# Altium schematic symbol library kmilo17pet-LT_PMIC_LT.SchLib: 2252 symbols (part 101 of 124)
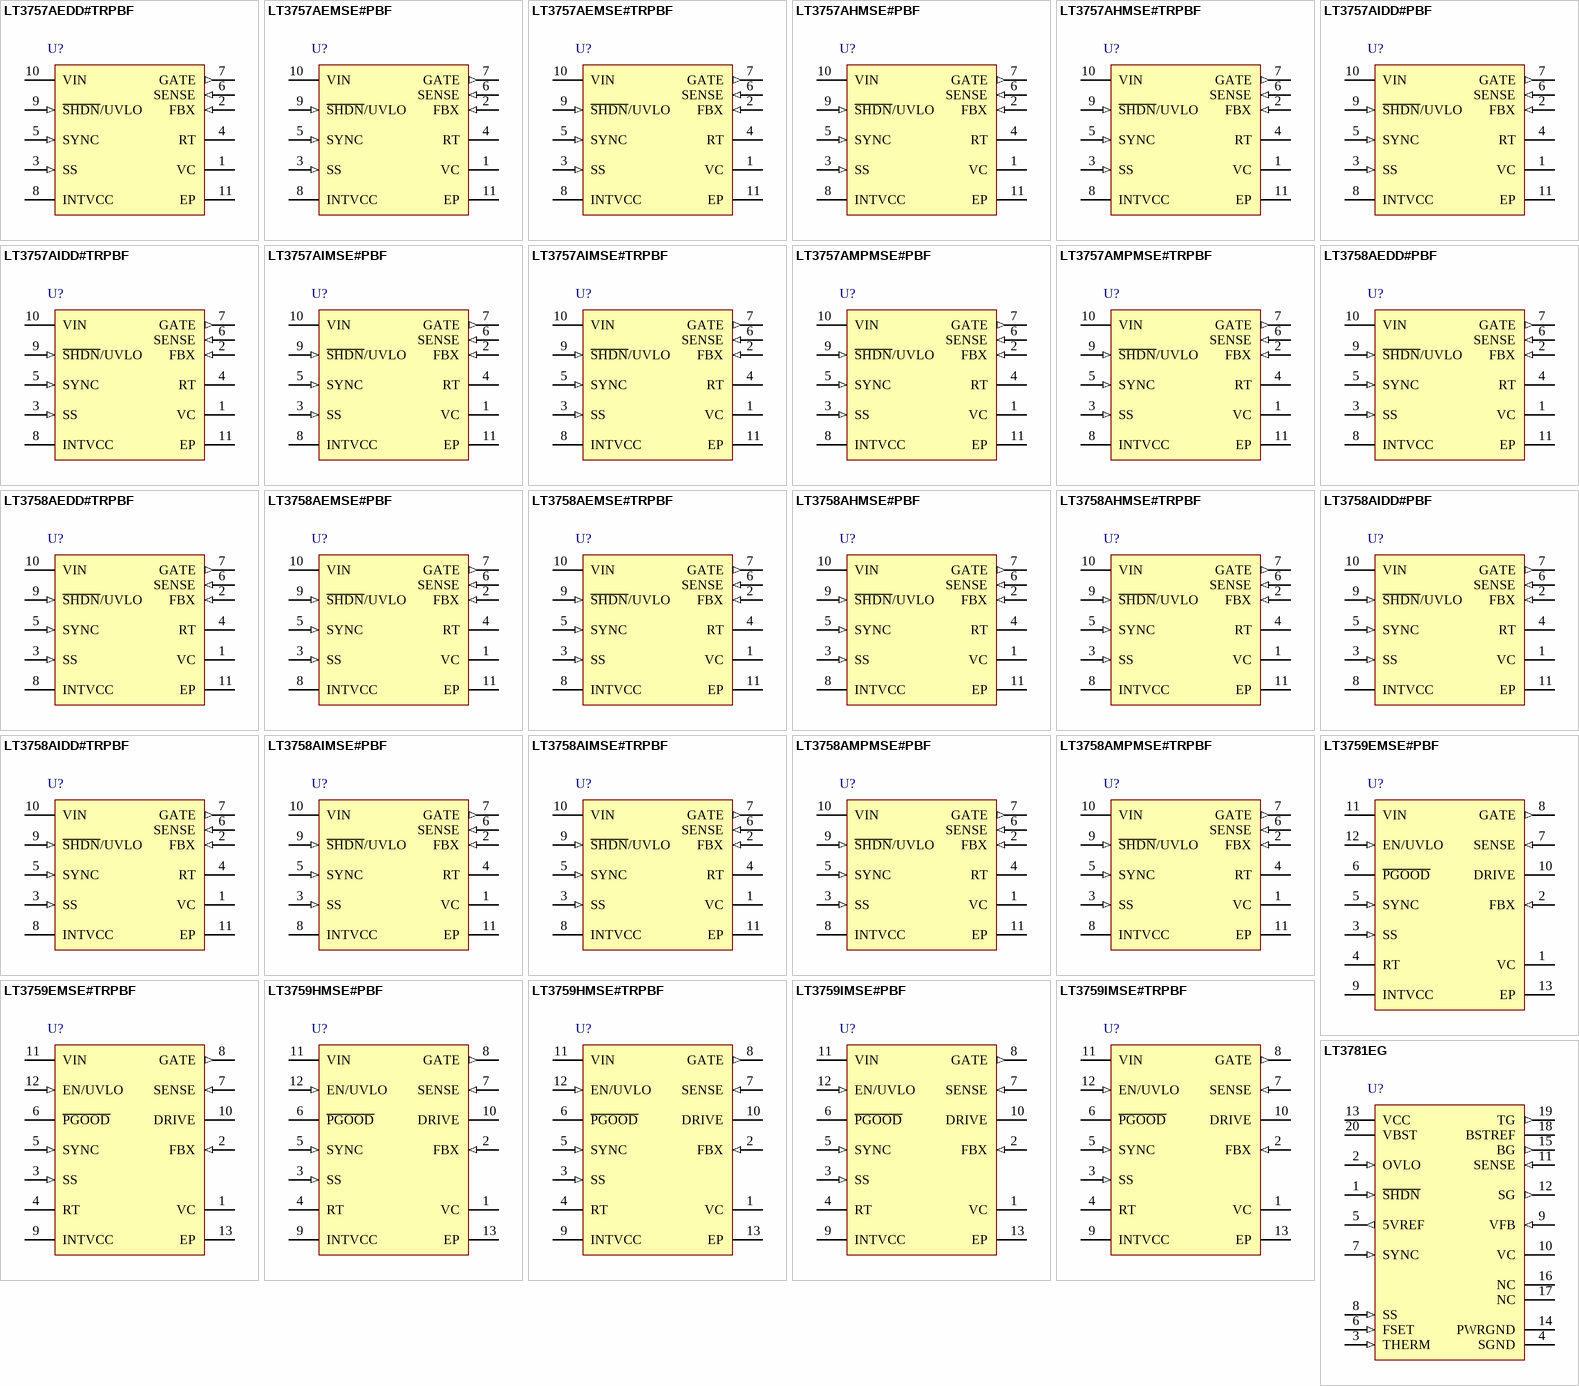
[diagram p171: symbols LT3757AEDD#TRPBF to LT3781EG]

## LT3758AEDD#PBF
designator U?
High Input Voltage, Boost, Flyback, SEPIC and Inverting Controller-Improved Load Transient, 10-pin SON (DD-10), -40 to 125 degC, Pb-Free; Manufacturer: Linear Technology; PartNumber: LT3758AEDD#PBF; Number of Outputs: 1; PackageReference: DD-10; PackageDescription: 10-Pin Plastic DFN, Body 3 x 3 mm, Pitch 0.5 mm; Supplier 1: Digi-Key; Supplier Part Number 1: LT3758AEDD#PBF-ND; RoHS: TRUE
footprint LT-DD-10_V (SON, 10-Leads, Body 3x3mm, Pitch 0.5mm, Thermal Pad 2.38x1.65mm)
pins: 1 VC "Error Amplifier Compensation Pin. Used to stabilize the voltage loop with an external RC network.", 2 FBX (in) "Positive and Negative Feedback Pin. Receives the feedback voltage from the external resistor divider across the output. Also modulates the frequency during start-up and fault conditions when FBX is close to GND.", 3 SS (in) "Soft-Start Pin. This pin modulates compensation pin voltage (VC) clamp. The soft-start interval is set with an external capacitor. The pin has a 10uA (typical) pull-up current source to an internal 2.5V rail. The soft-start (See Datasheet)", 4 RT "Switching Frequency Adjustment Pin. Set the frequency using a resistor to GND. Do not leave this pin open.", 5 SYNC (in) "Frequency Synchronization Pin. Used to synchronize the switching frequency to an outside clock. If this feature is used, an RT resistor should be chosen to program a switching frequency 20% slower than the SYNC pulse (See Datasheet)", 6 SENSE (in) "The Current Sense Input for the Control Loop. Kelvin connect this pin to the positive terminal of the switch current sense resistor in the source of the NFET. The negative terminal of the current sense resistor should be (See Datasheet)", 7 GATE (out) "N-Channel MOSFET Gate Driver Output. Switches between INTVCC and GND. Driven to GND when IC is shut down, during thermal lockout or when INTVCC is above or below the OV or UV thresholds, respectively.", 8 INTVCC (power) "Regulated Supply for Internal Loads and Gate Driver. Supplied from VIN and regulated to 7.2V (typical). INTVCC must be bypassed with a minimum of 4.7uF capacitor placed close to pin. INTVCC can be connected directly to VIN, (See Datasheet)", 9 ~{SHDN}/UVLO (in) "Shutdown and Undervoltage Detect Pin. An accurate 1.22V (nominal) falling threshold with externally programmable hysteresis detects when power is okay to enable switching. Rising hysteresis is generated by the external (See Datasheet)", 10 VIN (power) "Input Supply Pin. Must be locally bypassed with a 0.22uF, or larger, capacitor placed close to the pin.", 11 EP (power) "Ground. This pin also serves as the negative terminal of the current sense resistor. The Exposed Pad must be soldered directly to the local ground plane."

## LT3758AEDD#TRPBF
designator U?
High Input Voltage, Boost, Flyback, SEPIC and Inverting Controller-Improved Load Transient, 10-pin SON (DD-10), -40 to 125 degC, Pb-Free, Tape and Reel; Manufacturer: Linear Technology; PartNumber: LT3758AEDD#TRPBF; Number of Outputs: 1; PackageReference: DD-10; PackageDescription: 10-Pin Plastic DFN, Body 3 x 3 mm, Pitch 0.5 mm; Supplier 1: Digi-Key; Supplier Part Number 1: LT3758AEDD#TRPBF-ND; RoHS: TRUE
footprint LT-DD-10_V (SON, 10-Leads, Body 3x3mm, Pitch 0.5mm, Thermal Pad 2.38x1.65mm)
pins: 1 VC "Error Amplifier Compensation Pin. Used to stabilize the voltage loop with an external RC network.", 2 FBX (in) "Positive and Negative Feedback Pin. Receives the feedback voltage from the external resistor divider across the output. Also modulates the frequency during start-up and fault conditions when FBX is close to GND.", 3 SS (in) "Soft-Start Pin. This pin modulates compensation pin voltage (VC) clamp. The soft-start interval is set with an external capacitor. The pin has a 10uA (typical) pull-up current source to an internal 2.5V rail. The soft-start (See Datasheet)", 4 RT "Switching Frequency Adjustment Pin. Set the frequency using a resistor to GND. Do not leave this pin open.", 5 SYNC (in) "Frequency Synchronization Pin. Used to synchronize the switching frequency to an outside clock. If this feature is used, an RT resistor should be chosen to program a switching frequency 20% slower than the SYNC pulse (See Datasheet)", 6 SENSE (in) "The Current Sense Input for the Control Loop. Kelvin connect this pin to the positive terminal of the switch current sense resistor in the source of the NFET. The negative terminal of the current sense resistor should be (See Datasheet)", 7 GATE (out) "N-Channel MOSFET Gate Driver Output. Switches between INTVCC and GND. Driven to GND when IC is shut down, during thermal lockout or when INTVCC is above or below the OV or UV thresholds, respectively.", 8 INTVCC (power) "Regulated Supply for Internal Loads and Gate Driver. Supplied from VIN and regulated to 7.2V (typical). INTVCC must be bypassed with a minimum of 4.7uF capacitor placed close to pin. INTVCC can be connected directly to VIN, (See Datasheet)", 9 ~{SHDN}/UVLO (in) "Shutdown and Undervoltage Detect Pin. An accurate 1.22V (nominal) falling threshold with externally programmable hysteresis detects when power is okay to enable switching. Rising hysteresis is generated by the external (See Datasheet)", 10 VIN (power) "Input Supply Pin. Must be locally bypassed with a 0.22uF, or larger, capacitor placed close to the pin.", 11 EP (power) "Ground. This pin also serves as the negative terminal of the current sense resistor. The Exposed Pad must be soldered directly to the local ground plane."

## LT3758AEMSE#PBF
designator U?
High Input Voltage, Boost, Flyback, SEPIC and Inverting Controller-Improved Load Transient, 10-pin SOP (MSE-10-EDP), -40 to 125 degC, Pb-Free; Manufacturer: Linear Technology; PartNumber: LT3758AEMSE#PBF; Number of Outputs: 1; PackageReference: MSE-10; PackageDescription: 10-Pin Plastic MSOP, Exposed Die Pad, Body 3 x 3 mm, Pitch 0.5 mm; Supplier 1: Digi-Key; Supplier Part Number 1: LT3758AEMSE#PBF-ND; RoHS: TRUE
footprint LT-MSE-10-EDP_N (SOP, 10-Leads, Body 3.1x3.1mm, Pitch 0.5mm, Thermal Pad 1.88x1.68mm, IPC Medium Density)
footprint LT-MSE-10-EDP_L (SOP, 10-Leads, Body 3.1x3.1mm, Pitch 0.5mm, Thermal Pad 1.88x1.68mm, IPC High Density)
footprint LT-MSE-10-EDP_M (SOP, 10-Leads, Body 3.1x3.1mm, Pitch 0.5mm, Thermal Pad 1.88x1.68mm, IPC Low Density)
pins: 1 VC "Error Amplifier Compensation Pin. Used to stabilize the voltage loop with an external RC network.", 2 FBX (in) "Positive and Negative Feedback Pin. Receives the feedback voltage from the external resistor divider across the output. Also modulates the frequency during start-up and fault conditions when FBX is close to GND.", 3 SS (in) "Soft-Start Pin. This pin modulates compensation pin voltage (VC) clamp. The soft-start interval is set with an external capacitor. The pin has a 10uA (typical) pull-up current source to an internal 2.5V rail. The soft-start (See Datasheet)", 4 RT "Switching Frequency Adjustment Pin. Set the frequency using a resistor to GND. Do not leave this pin open.", 5 SYNC (in) "Frequency Synchronization Pin. Used to synchronize the switching frequency to an outside clock. If this feature is used, an RT resistor should be chosen to program a switching frequency 20% slower than the SYNC pulse (See Datasheet)", 6 SENSE (in) "The Current Sense Input for the Control Loop. Kelvin connect this pin to the positive terminal of the switch current sense resistor in the source of the NFET. The negative terminal of the current sense resistor should be (See Datasheet)", 7 GATE (out) "N-Channel MOSFET Gate Driver Output. Switches between INTVCC and GND. Driven to GND when IC is shut down, during thermal lockout or when INTVCC is above or below the OV or UV thresholds, respectively.", 8 INTVCC (power) "Regulated Supply for Internal Loads and Gate Driver. Supplied from VIN and regulated to 7.2V (typical). INTVCC must be bypassed with a minimum of 4.7uF capacitor placed close to pin. INTVCC can be connected directly to VIN, (See Datasheet)", 9 ~{SHDN}/UVLO (in) "Shutdown and Undervoltage Detect Pin. An accurate 1.22V (nominal) falling threshold with externally programmable hysteresis detects when power is okay to enable switching. Rising hysteresis is generated by the external (See Datasheet)", 10 VIN (power) "Input Supply Pin. Must be locally bypassed with a 0.22uF, or larger, capacitor placed close to the pin.", 11 EP (power) "Ground. This pin also serves as the negative terminal of the current sense resistor. The Exposed Pad must be soldered directly to the local ground plane."

## LT3758AEMSE#TRPBF
designator U?
High Input Voltage, Boost, Flyback, SEPIC and Inverting Controller-Improved Load Transient, 10-pin SOP (MSE-10-EDP), -40 to 125 degC, Pb-Free, Tape and Reel; Manufacturer: Linear Technology; PartNumber: LT3758AEMSE#TRPBF; Number of Outputs: 1; PackageReference: MSE-10; PackageDescription: 10-Pin Plastic MSOP, Exposed Die Pad, Body 3 x 3 mm, Pitch 0.5 mm; Supplier 1: Digi-Key; Supplier Part Number 1: LT3758AEMSE#TRPBF-ND; RoHS: TRUE
footprint LT-MSE-10-EDP_N (SOP, 10-Leads, Body 3.1x3.1mm, Pitch 0.5mm, Thermal Pad 1.88x1.68mm, IPC Medium Density)
footprint LT-MSE-10-EDP_L (SOP, 10-Leads, Body 3.1x3.1mm, Pitch 0.5mm, Thermal Pad 1.88x1.68mm, IPC High Density)
footprint LT-MSE-10-EDP_M (SOP, 10-Leads, Body 3.1x3.1mm, Pitch 0.5mm, Thermal Pad 1.88x1.68mm, IPC Low Density)
pins: 1 VC "Error Amplifier Compensation Pin. Used to stabilize the voltage loop with an external RC network.", 2 FBX (in) "Positive and Negative Feedback Pin. Receives the feedback voltage from the external resistor divider across the output. Also modulates the frequency during start-up and fault conditions when FBX is close to GND.", 3 SS (in) "Soft-Start Pin. This pin modulates compensation pin voltage (VC) clamp. The soft-start interval is set with an external capacitor. The pin has a 10uA (typical) pull-up current source to an internal 2.5V rail. The soft-start (See Datasheet)", 4 RT "Switching Frequency Adjustment Pin. Set the frequency using a resistor to GND. Do not leave this pin open.", 5 SYNC (in) "Frequency Synchronization Pin. Used to synchronize the switching frequency to an outside clock. If this feature is used, an RT resistor should be chosen to program a switching frequency 20% slower than the SYNC pulse (See Datasheet)", 6 SENSE (in) "The Current Sense Input for the Control Loop. Kelvin connect this pin to the positive terminal of the switch current sense resistor in the source of the NFET. The negative terminal of the current sense resistor should be (See Datasheet)", 7 GATE (out) "N-Channel MOSFET Gate Driver Output. Switches between INTVCC and GND. Driven to GND when IC is shut down, during thermal lockout or when INTVCC is above or below the OV or UV thresholds, respectively.", 8 INTVCC (power) "Regulated Supply for Internal Loads and Gate Driver. Supplied from VIN and regulated to 7.2V (typical). INTVCC must be bypassed with a minimum of 4.7uF capacitor placed close to pin. INTVCC can be connected directly to VIN, (See Datasheet)", 9 ~{SHDN}/UVLO (in) "Shutdown and Undervoltage Detect Pin. An accurate 1.22V (nominal) falling threshold with externally programmable hysteresis detects when power is okay to enable switching. Rising hysteresis is generated by the external (See Datasheet)", 10 VIN (power) "Input Supply Pin. Must be locally bypassed with a 0.22uF, or larger, capacitor placed close to the pin.", 11 EP (power) "Ground. This pin also serves as the negative terminal of the current sense resistor. The Exposed Pad must be soldered directly to the local ground plane."

## LT3758AHMSE#PBF
designator U?
High Input Voltage, Boost, Flyback, SEPIC and Inverting Controller-Improved Load Transient, 10-pin SOP (MSE-10-EDP), -40 to 150 degC, Pb-Free; Manufacturer: Linear Technology; PartNumber: LT3758AHMSE#PBF; Number of Outputs: 1; PackageReference: MSE-10; PackageDescription: 10-Pin Plastic MSOP, Exposed Die Pad, Body 3 x 3 mm, Pitch 0.5 mm; Supplier 1: Digi-Key; Supplier Part Number 1: LT3758AHMSE#PBF-ND; RoHS: TRUE
footprint LT-MSE-10-EDP_N (SOP, 10-Leads, Body 3.1x3.1mm, Pitch 0.5mm, Thermal Pad 1.88x1.68mm, IPC Medium Density)
footprint LT-MSE-10-EDP_L (SOP, 10-Leads, Body 3.1x3.1mm, Pitch 0.5mm, Thermal Pad 1.88x1.68mm, IPC High Density)
footprint LT-MSE-10-EDP_M (SOP, 10-Leads, Body 3.1x3.1mm, Pitch 0.5mm, Thermal Pad 1.88x1.68mm, IPC Low Density)
pins: 1 VC "Error Amplifier Compensation Pin. Used to stabilize the voltage loop with an external RC network.", 2 FBX (in) "Positive and Negative Feedback Pin. Receives the feedback voltage from the external resistor divider across the output. Also modulates the frequency during start-up and fault conditions when FBX is close to GND.", 3 SS (in) "Soft-Start Pin. This pin modulates compensation pin voltage (VC) clamp. The soft-start interval is set with an external capacitor. The pin has a 10uA (typical) pull-up current source to an internal 2.5V rail. The soft-start (See Datasheet)", 4 RT "Switching Frequency Adjustment Pin. Set the frequency using a resistor to GND. Do not leave this pin open.", 5 SYNC (in) "Frequency Synchronization Pin. Used to synchronize the switching frequency to an outside clock. If this feature is used, an RT resistor should be chosen to program a switching frequency 20% slower than the SYNC pulse (See Datasheet)", 6 SENSE (in) "The Current Sense Input for the Control Loop. Kelvin connect this pin to the positive terminal of the switch current sense resistor in the source of the NFET. The negative terminal of the current sense resistor should be (See Datasheet)", 7 GATE (out) "N-Channel MOSFET Gate Driver Output. Switches between INTVCC and GND. Driven to GND when IC is shut down, during thermal lockout or when INTVCC is above or below the OV or UV thresholds, respectively.", 8 INTVCC (power) "Regulated Supply for Internal Loads and Gate Driver. Supplied from VIN and regulated to 7.2V (typical). INTVCC must be bypassed with a minimum of 4.7uF capacitor placed close to pin. INTVCC can be connected directly to VIN, (See Datasheet)", 9 ~{SHDN}/UVLO (in) "Shutdown and Undervoltage Detect Pin. An accurate 1.22V (nominal) falling threshold with externally programmable hysteresis detects when power is okay to enable switching. Rising hysteresis is generated by the external (See Datasheet)", 10 VIN (power) "Input Supply Pin. Must be locally bypassed with a 0.22uF, or larger, capacitor placed close to the pin.", 11 EP (power) "Ground. This pin also serves as the negative terminal of the current sense resistor. The Exposed Pad must be soldered directly to the local ground plane."

## LT3758AHMSE#TRPBF
designator U?
High Input Voltage, Boost, Flyback, SEPIC and Inverting Controller-Improved Load Transient, 10-pin SOP (MSE-10-EDP), -40 to 150 degC, Pb-Free, Tape and Reel; Manufacturer: Linear Technology; PartNumber: LT3758AHMSE#TRPBF; Number of Outputs: 1; PackageReference: MSE-10; PackageDescription: 10-Pin Plastic MSOP, Exposed Die Pad, Body 3 x 3 mm, Pitch 0.5 mm; Supplier 1: Digi-Key; Supplier Part Number 1: LT3758AHMSE#TRPBF-ND; RoHS: TRUE
footprint LT-MSE-10-EDP_N (SOP, 10-Leads, Body 3.1x3.1mm, Pitch 0.5mm, Thermal Pad 1.88x1.68mm, IPC Medium Density)
footprint LT-MSE-10-EDP_L (SOP, 10-Leads, Body 3.1x3.1mm, Pitch 0.5mm, Thermal Pad 1.88x1.68mm, IPC High Density)
footprint LT-MSE-10-EDP_M (SOP, 10-Leads, Body 3.1x3.1mm, Pitch 0.5mm, Thermal Pad 1.88x1.68mm, IPC Low Density)
pins: 1 VC "Error Amplifier Compensation Pin. Used to stabilize the voltage loop with an external RC network.", 2 FBX (in) "Positive and Negative Feedback Pin. Receives the feedback voltage from the external resistor divider across the output. Also modulates the frequency during start-up and fault conditions when FBX is close to GND.", 3 SS (in) "Soft-Start Pin. This pin modulates compensation pin voltage (VC) clamp. The soft-start interval is set with an external capacitor. The pin has a 10uA (typical) pull-up current source to an internal 2.5V rail. The soft-start (See Datasheet)", 4 RT "Switching Frequency Adjustment Pin. Set the frequency using a resistor to GND. Do not leave this pin open.", 5 SYNC (in) "Frequency Synchronization Pin. Used to synchronize the switching frequency to an outside clock. If this feature is used, an RT resistor should be chosen to program a switching frequency 20% slower than the SYNC pulse (See Datasheet)", 6 SENSE (in) "The Current Sense Input for the Control Loop. Kelvin connect this pin to the positive terminal of the switch current sense resistor in the source of the NFET. The negative terminal of the current sense resistor should be (See Datasheet)", 7 GATE (out) "N-Channel MOSFET Gate Driver Output. Switches between INTVCC and GND. Driven to GND when IC is shut down, during thermal lockout or when INTVCC is above or below the OV or UV thresholds, respectively.", 8 INTVCC (power) "Regulated Supply for Internal Loads and Gate Driver. Supplied from VIN and regulated to 7.2V (typical). INTVCC must be bypassed with a minimum of 4.7uF capacitor placed close to pin. INTVCC can be connected directly to VIN, (See Datasheet)", 9 ~{SHDN}/UVLO (in) "Shutdown and Undervoltage Detect Pin. An accurate 1.22V (nominal) falling threshold with externally programmable hysteresis detects when power is okay to enable switching. Rising hysteresis is generated by the external (See Datasheet)", 10 VIN (power) "Input Supply Pin. Must be locally bypassed with a 0.22uF, or larger, capacitor placed close to the pin.", 11 EP (power) "Ground. This pin also serves as the negative terminal of the current sense resistor. The Exposed Pad must be soldered directly to the local ground plane."

## LT3758AIDD#PBF
designator U?
High Input Voltage, Boost, Flyback, SEPIC and Inverting Controller-Improved Load Transient, 10-pin SON (DD-10), -40 to 125 degC, Pb-Free; Manufacturer: Linear Technology; PartNumber: LT3758AIDD#PBF; Number of Outputs: 1; PackageReference: DD-10; PackageDescription: 10-Pin Plastic DFN, Body 3 x 3 mm, Pitch 0.5 mm; Supplier 1: Digi-Key; Supplier Part Number 1: LT3758AIDD#PBF-ND; RoHS: TRUE
footprint LT-DD-10_V (SON, 10-Leads, Body 3x3mm, Pitch 0.5mm, Thermal Pad 2.38x1.65mm)
pins: 1 VC "Error Amplifier Compensation Pin. Used to stabilize the voltage loop with an external RC network.", 2 FBX (in) "Positive and Negative Feedback Pin. Receives the feedback voltage from the external resistor divider across the output. Also modulates the frequency during start-up and fault conditions when FBX is close to GND.", 3 SS (in) "Soft-Start Pin. This pin modulates compensation pin voltage (VC) clamp. The soft-start interval is set with an external capacitor. The pin has a 10uA (typical) pull-up current source to an internal 2.5V rail. The soft-start (See Datasheet)", 4 RT "Switching Frequency Adjustment Pin. Set the frequency using a resistor to GND. Do not leave this pin open.", 5 SYNC (in) "Frequency Synchronization Pin. Used to synchronize the switching frequency to an outside clock. If this feature is used, an RT resistor should be chosen to program a switching frequency 20% slower than the SYNC pulse (See Datasheet)", 6 SENSE (in) "The Current Sense Input for the Control Loop. Kelvin connect this pin to the positive terminal of the switch current sense resistor in the source of the NFET. The negative terminal of the current sense resistor should be (See Datasheet)", 7 GATE (out) "N-Channel MOSFET Gate Driver Output. Switches between INTVCC and GND. Driven to GND when IC is shut down, during thermal lockout or when INTVCC is above or below the OV or UV thresholds, respectively.", 8 INTVCC (power) "Regulated Supply for Internal Loads and Gate Driver. Supplied from VIN and regulated to 7.2V (typical). INTVCC must be bypassed with a minimum of 4.7uF capacitor placed close to pin. INTVCC can be connected directly to VIN, (See Datasheet)", 9 ~{SHDN}/UVLO (in) "Shutdown and Undervoltage Detect Pin. An accurate 1.22V (nominal) falling threshold with externally programmable hysteresis detects when power is okay to enable switching. Rising hysteresis is generated by the external (See Datasheet)", 10 VIN (power) "Input Supply Pin. Must be locally bypassed with a 0.22uF, or larger, capacitor placed close to the pin.", 11 EP (power) "Ground. This pin also serves as the negative terminal of the current sense resistor. The Exposed Pad must be soldered directly to the local ground plane."

## LT3758AIDD#TRPBF
designator U?
High Input Voltage, Boost, Flyback, SEPIC and Inverting Controller-Improved Load Transient, 10-pin SON (DD-10), -40 to 125 degC, Pb-Free, Tape and Reel; Manufacturer: Linear Technology; PartNumber: LT3758AIDD#TRPBF; Number of Outputs: 1; PackageReference: DD-10; PackageDescription: 10-Pin Plastic DFN, Body 3 x 3 mm, Pitch 0.5 mm; Supplier 1: Digi-Key; Supplier Part Number 1: LT3758AIDD#TRPBF-ND; RoHS: TRUE
footprint LT-DD-10_V (SON, 10-Leads, Body 3x3mm, Pitch 0.5mm, Thermal Pad 2.38x1.65mm)
pins: 1 VC "Error Amplifier Compensation Pin. Used to stabilize the voltage loop with an external RC network.", 2 FBX (in) "Positive and Negative Feedback Pin. Receives the feedback voltage from the external resistor divider across the output. Also modulates the frequency during start-up and fault conditions when FBX is close to GND.", 3 SS (in) "Soft-Start Pin. This pin modulates compensation pin voltage (VC) clamp. The soft-start interval is set with an external capacitor. The pin has a 10uA (typical) pull-up current source to an internal 2.5V rail. The soft-start (See Datasheet)", 4 RT "Switching Frequency Adjustment Pin. Set the frequency using a resistor to GND. Do not leave this pin open.", 5 SYNC (in) "Frequency Synchronization Pin. Used to synchronize the switching frequency to an outside clock. If this feature is used, an RT resistor should be chosen to program a switching frequency 20% slower than the SYNC pulse (See Datasheet)", 6 SENSE (in) "The Current Sense Input for the Control Loop. Kelvin connect this pin to the positive terminal of the switch current sense resistor in the source of the NFET. The negative terminal of the current sense resistor should be (See Datasheet)", 7 GATE (out) "N-Channel MOSFET Gate Driver Output. Switches between INTVCC and GND. Driven to GND when IC is shut down, during thermal lockout or when INTVCC is above or below the OV or UV thresholds, respectively.", 8 INTVCC (power) "Regulated Supply for Internal Loads and Gate Driver. Supplied from VIN and regulated to 7.2V (typical). INTVCC must be bypassed with a minimum of 4.7uF capacitor placed close to pin. INTVCC can be connected directly to VIN, (See Datasheet)", 9 ~{SHDN}/UVLO (in) "Shutdown and Undervoltage Detect Pin. An accurate 1.22V (nominal) falling threshold with externally programmable hysteresis detects when power is okay to enable switching. Rising hysteresis is generated by the external (See Datasheet)", 10 VIN (power) "Input Supply Pin. Must be locally bypassed with a 0.22uF, or larger, capacitor placed close to the pin.", 11 EP (power) "Ground. This pin also serves as the negative terminal of the current sense resistor. The Exposed Pad must be soldered directly to the local ground plane."

## LT3758AIMSE#PBF
designator U?
High Input Voltage, Boost, Flyback, SEPIC and Inverting Controller-Improved Load Transient, 10-pin SOP (MSE-10-EDP), -40 to 125 degC, Pb-Free; Manufacturer: Linear Technology; PartNumber: LT3758AIMSE#PBF; Number of Outputs: 1; PackageReference: MSE-10; PackageDescription: 10-Pin Plastic MSOP, Exposed Die Pad, Body 3 x 3 mm, Pitch 0.5 mm; Supplier 1: Digi-Key; Supplier Part Number 1: LT3758AIMSE#PBF-ND; RoHS: TRUE
footprint LT-MSE-10-EDP_N (SOP, 10-Leads, Body 3.1x3.1mm, Pitch 0.5mm, Thermal Pad 1.88x1.68mm, IPC Medium Density)
footprint LT-MSE-10-EDP_L (SOP, 10-Leads, Body 3.1x3.1mm, Pitch 0.5mm, Thermal Pad 1.88x1.68mm, IPC High Density)
footprint LT-MSE-10-EDP_M (SOP, 10-Leads, Body 3.1x3.1mm, Pitch 0.5mm, Thermal Pad 1.88x1.68mm, IPC Low Density)
pins: 1 VC "Error Amplifier Compensation Pin. Used to stabilize the voltage loop with an external RC network.", 2 FBX (in) "Positive and Negative Feedback Pin. Receives the feedback voltage from the external resistor divider across the output. Also modulates the frequency during start-up and fault conditions when FBX is close to GND.", 3 SS (in) "Soft-Start Pin. This pin modulates compensation pin voltage (VC) clamp. The soft-start interval is set with an external capacitor. The pin has a 10uA (typical) pull-up current source to an internal 2.5V rail. The soft-start (See Datasheet)", 4 RT "Switching Frequency Adjustment Pin. Set the frequency using a resistor to GND. Do not leave this pin open.", 5 SYNC (in) "Frequency Synchronization Pin. Used to synchronize the switching frequency to an outside clock. If this feature is used, an RT resistor should be chosen to program a switching frequency 20% slower than the SYNC pulse (See Datasheet)", 6 SENSE (in) "The Current Sense Input for the Control Loop. Kelvin connect this pin to the positive terminal of the switch current sense resistor in the source of the NFET. The negative terminal of the current sense resistor should be (See Datasheet)", 7 GATE (out) "N-Channel MOSFET Gate Driver Output. Switches between INTVCC and GND. Driven to GND when IC is shut down, during thermal lockout or when INTVCC is above or below the OV or UV thresholds, respectively.", 8 INTVCC (power) "Regulated Supply for Internal Loads and Gate Driver. Supplied from VIN and regulated to 7.2V (typical). INTVCC must be bypassed with a minimum of 4.7uF capacitor placed close to pin. INTVCC can be connected directly to VIN, (See Datasheet)", 9 ~{SHDN}/UVLO (in) "Shutdown and Undervoltage Detect Pin. An accurate 1.22V (nominal) falling threshold with externally programmable hysteresis detects when power is okay to enable switching. Rising hysteresis is generated by the external (See Datasheet)", 10 VIN (power) "Input Supply Pin. Must be locally bypassed with a 0.22uF, or larger, capacitor placed close to the pin.", 11 EP (power) "Ground. This pin also serves as the negative terminal of the current sense resistor. The Exposed Pad must be soldered directly to the local ground plane."

## LT3758AIMSE#TRPBF
designator U?
High Input Voltage, Boost, Flyback, SEPIC and Inverting Controller-Improved Load Transient, 10-pin SOP (MSE-10-EDP), -40 to 125 degC, Pb-Free, Tape and Reel; Manufacturer: Linear Technology; PartNumber: LT3758AIMSE#TRPBF; Number of Outputs: 1; PackageReference: MSE-10; PackageDescription: 10-Pin Plastic MSOP, Exposed Die Pad, Body 3 x 3 mm, Pitch 0.5 mm; Supplier 1: Digi-Key; Supplier Part Number 1: LT3758AIMSE#TRPBF-ND; RoHS: TRUE
footprint LT-MSE-10-EDP_N (SOP, 10-Leads, Body 3.1x3.1mm, Pitch 0.5mm, Thermal Pad 1.88x1.68mm, IPC Medium Density)
footprint LT-MSE-10-EDP_L (SOP, 10-Leads, Body 3.1x3.1mm, Pitch 0.5mm, Thermal Pad 1.88x1.68mm, IPC High Density)
footprint LT-MSE-10-EDP_M (SOP, 10-Leads, Body 3.1x3.1mm, Pitch 0.5mm, Thermal Pad 1.88x1.68mm, IPC Low Density)
pins: 1 VC "Error Amplifier Compensation Pin. Used to stabilize the voltage loop with an external RC network.", 2 FBX (in) "Positive and Negative Feedback Pin. Receives the feedback voltage from the external resistor divider across the output. Also modulates the frequency during start-up and fault conditions when FBX is close to GND.", 3 SS (in) "Soft-Start Pin. This pin modulates compensation pin voltage (VC) clamp. The soft-start interval is set with an external capacitor. The pin has a 10uA (typical) pull-up current source to an internal 2.5V rail. The soft-start (See Datasheet)", 4 RT "Switching Frequency Adjustment Pin. Set the frequency using a resistor to GND. Do not leave this pin open.", 5 SYNC (in) "Frequency Synchronization Pin. Used to synchronize the switching frequency to an outside clock. If this feature is used, an RT resistor should be chosen to program a switching frequency 20% slower than the SYNC pulse (See Datasheet)", 6 SENSE (in) "The Current Sense Input for the Control Loop. Kelvin connect this pin to the positive terminal of the switch current sense resistor in the source of the NFET. The negative terminal of the current sense resistor should be (See Datasheet)", 7 GATE (out) "N-Channel MOSFET Gate Driver Output. Switches between INTVCC and GND. Driven to GND when IC is shut down, during thermal lockout or when INTVCC is above or below the OV or UV thresholds, respectively.", 8 INTVCC (power) "Regulated Supply for Internal Loads and Gate Driver. Supplied from VIN and regulated to 7.2V (typical). INTVCC must be bypassed with a minimum of 4.7uF capacitor placed close to pin. INTVCC can be connected directly to VIN, (See Datasheet)", 9 ~{SHDN}/UVLO (in) "Shutdown and Undervoltage Detect Pin. An accurate 1.22V (nominal) falling threshold with externally programmable hysteresis detects when power is okay to enable switching. Rising hysteresis is generated by the external (See Datasheet)", 10 VIN (power) "Input Supply Pin. Must be locally bypassed with a 0.22uF, or larger, capacitor placed close to the pin.", 11 EP (power) "Ground. This pin also serves as the negative terminal of the current sense resistor. The Exposed Pad must be soldered directly to the local ground plane."

## LT3758AMPMSE#PBF
designator U?
High Input Voltage, Boost, Flyback, SEPIC and Inverting Controller-Improved Load Transient, 10-pin SOP (MSE-10-EDP), -55 to 150 degC, Pb-Free; Manufacturer: Linear Technology; PartNumber: LT3758AMPMSE#PBF; Number of Outputs: 1; PackageReference: MSE-10; PackageDescription: 10-Pin Plastic MSOP, Exposed Die Pad, Body 3 x 3 mm, Pitch 0.5 mm; Supplier 1: Digi-Key; Supplier Part Number 1: LT3758AMPMSE#PBF-ND; RoHS: TRUE
footprint LT-MSE-10-EDP_N (SOP, 10-Leads, Body 3.1x3.1mm, Pitch 0.5mm, Thermal Pad 1.88x1.68mm, IPC Medium Density)
footprint LT-MSE-10-EDP_L (SOP, 10-Leads, Body 3.1x3.1mm, Pitch 0.5mm, Thermal Pad 1.88x1.68mm, IPC High Density)
footprint LT-MSE-10-EDP_M (SOP, 10-Leads, Body 3.1x3.1mm, Pitch 0.5mm, Thermal Pad 1.88x1.68mm, IPC Low Density)
pins: 1 VC "Error Amplifier Compensation Pin. Used to stabilize the voltage loop with an external RC network.", 2 FBX (in) "Positive and Negative Feedback Pin. Receives the feedback voltage from the external resistor divider across the output. Also modulates the frequency during start-up and fault conditions when FBX is close to GND.", 3 SS (in) "Soft-Start Pin. This pin modulates compensation pin voltage (VC) clamp. The soft-start interval is set with an external capacitor. The pin has a 10uA (typical) pull-up current source to an internal 2.5V rail. The soft-start (See Datasheet)", 4 RT "Switching Frequency Adjustment Pin. Set the frequency using a resistor to GND. Do not leave this pin open.", 5 SYNC (in) "Frequency Synchronization Pin. Used to synchronize the switching frequency to an outside clock. If this feature is used, an RT resistor should be chosen to program a switching frequency 20% slower than the SYNC pulse (See Datasheet)", 6 SENSE (in) "The Current Sense Input for the Control Loop. Kelvin connect this pin to the positive terminal of the switch current sense resistor in the source of the NFET. The negative terminal of the current sense resistor should be (See Datasheet)", 7 GATE (out) "N-Channel MOSFET Gate Driver Output. Switches between INTVCC and GND. Driven to GND when IC is shut down, during thermal lockout or when INTVCC is above or below the OV or UV thresholds, respectively.", 8 INTVCC (power) "Regulated Supply for Internal Loads and Gate Driver. Supplied from VIN and regulated to 7.2V (typical). INTVCC must be bypassed with a minimum of 4.7uF capacitor placed close to pin. INTVCC can be connected directly to VIN, (See Datasheet)", 9 ~{SHDN}/UVLO (in) "Shutdown and Undervoltage Detect Pin. An accurate 1.22V (nominal) falling threshold with externally programmable hysteresis detects when power is okay to enable switching. Rising hysteresis is generated by the external (See Datasheet)", 10 VIN (power) "Input Supply Pin. Must be locally bypassed with a 0.22uF, or larger, capacitor placed close to the pin.", 11 EP (power) "Ground. This pin also serves as the negative terminal of the current sense resistor. The Exposed Pad must be soldered directly to the local ground plane."

## LT3758AMPMSE#TRPBF
designator U?
High Input Voltage, Boost, Flyback, SEPIC and Inverting Controller-Improved Load Transient, 10-pin SOP (MSE-10-EDP), -55 to 150 degC, Pb-Free, Tape and Reel; Manufacturer: Linear Technology; PartNumber: LT3758AMPMSE#TRPBF; Number of Outputs: 1; PackageReference: MSE-10; PackageDescription: 10-Pin Plastic MSOP, Exposed Die Pad, Body 3 x 3 mm, Pitch 0.5 mm; Supplier 1: Digi-Key; Supplier Part Number 1: LT3758AMPMSE#TRPBF-ND; RoHS: TRUE
footprint LT-MSE-10-EDP_N (SOP, 10-Leads, Body 3.1x3.1mm, Pitch 0.5mm, Thermal Pad 1.88x1.68mm, IPC Medium Density)
footprint LT-MSE-10-EDP_L (SOP, 10-Leads, Body 3.1x3.1mm, Pitch 0.5mm, Thermal Pad 1.88x1.68mm, IPC High Density)
footprint LT-MSE-10-EDP_M (SOP, 10-Leads, Body 3.1x3.1mm, Pitch 0.5mm, Thermal Pad 1.88x1.68mm, IPC Low Density)
pins: 1 VC "Error Amplifier Compensation Pin. Used to stabilize the voltage loop with an external RC network.", 2 FBX (in) "Positive and Negative Feedback Pin. Receives the feedback voltage from the external resistor divider across the output. Also modulates the frequency during start-up and fault conditions when FBX is close to GND.", 3 SS (in) "Soft-Start Pin. This pin modulates compensation pin voltage (VC) clamp. The soft-start interval is set with an external capacitor. The pin has a 10uA (typical) pull-up current source to an internal 2.5V rail. The soft-start (See Datasheet)", 4 RT "Switching Frequency Adjustment Pin. Set the frequency using a resistor to GND. Do not leave this pin open.", 5 SYNC (in) "Frequency Synchronization Pin. Used to synchronize the switching frequency to an outside clock. If this feature is used, an RT resistor should be chosen to program a switching frequency 20% slower than the SYNC pulse (See Datasheet)", 6 SENSE (in) "The Current Sense Input for the Control Loop. Kelvin connect this pin to the positive terminal of the switch current sense resistor in the source of the NFET. The negative terminal of the current sense resistor should be (See Datasheet)", 7 GATE (out) "N-Channel MOSFET Gate Driver Output. Switches between INTVCC and GND. Driven to GND when IC is shut down, during thermal lockout or when INTVCC is above or below the OV or UV thresholds, respectively.", 8 INTVCC (power) "Regulated Supply for Internal Loads and Gate Driver. Supplied from VIN and regulated to 7.2V (typical). INTVCC must be bypassed with a minimum of 4.7uF capacitor placed close to pin. INTVCC can be connected directly to VIN, (See Datasheet)", 9 ~{SHDN}/UVLO (in) "Shutdown and Undervoltage Detect Pin. An accurate 1.22V (nominal) falling threshold with externally programmable hysteresis detects when power is okay to enable switching. Rising hysteresis is generated by the external (See Datasheet)", 10 VIN (power) "Input Supply Pin. Must be locally bypassed with a 0.22uF, or larger, capacitor placed close to the pin.", 11 EP (power) "Ground. This pin also serves as the negative terminal of the current sense resistor. The Exposed Pad must be soldered directly to the local ground plane."

## LT3759EMSE#PBF
designator U?
Wide Input Voltage Range Boost / SEPIC / Inverting Controller, 12-pin SOP (MSE-12-EDP), -40 to 125 degC, Pb-Free; Manufacturer: Linear Technology; PartNumber: LT3759EMSE#PBF; Number of Outputs: 1; PackageReference: MSE-12-EDP; PackageDescription: 12-Pin Plastic MSOP, Exposed Die Pad, Body 4.039 x 3 mm, Pitch 0.65 mm; Supplier 1: Digi-Key; Supplier Part Number 1: LT3759EMSE#PBF-ND; RoHS: TRUE
footprint LT-MSE-12-EDP_N (SOP, 12-Leads, Body 4.1x3.1mm, Pitch 0.65mm, Thermal Pad 2.95x1.76mm, IPC Medium Density)
footprint LT-MSE-12-EDP_L (SOP, 12-Leads, Body 4.1x3.1mm, Pitch 0.65mm, Thermal Pad 2.95x1.76mm, IPC High Density)
footprint LT-MSE-12-EDP_M (SOP, 12-Leads, Body 4.1x3.1mm, Pitch 0.65mm, Thermal Pad 2.95x1.76mm, IPC Low Density)
pins: 1 VC "Error Amplifier Compensation Pin. Used to stabilize the voltage loop with an external RC network.", 2 FBX (in) "Voltage Regulation Feedback Pin for Positive or Negative Outputs. Connect this pin to a resistor divider between the output and GND. FBX is the input of two error amplifiers-one configured to regulate a positive output; the (See Datasheet)", 3 SS (in) "Soft-Start Pin. This pin modulates compensation pin voltage (VC) clamp. The soft-start interval is set with an external capacitor. The pin has a 10uA (typical) pull-up current source to an internal 2.5V rail. The soft-start (See Datasheet)", 4 RT "Switching Frequency Adjustment Pin. Set the frequency using a resistor to GND. Do not leave the RT pin open.", 5 SYNC (in) "Frequency Synchronization Pin. Used to synchronize the internal oscillator to an outside clock. If this feature is used, an RT resistor should be chosen to program a switching frequency 20% slower than SYNC pulse frequency. (See Datasheet)", 6 ~{PGOOD} (oc) "Output Ready Status Pin. An open-collector pull down on P\G\O\O\D\ asserts when INTVCC is greater than 2.7V and the FBX voltage is within 5% (80mV if VFBX = 1.6V or 40mV if VFBX = -0.8V) of the regulation voltage.", 7 SENSE (in) "The Current Sense Input for the Control Loop. Kelvin connect this pin to the positive terminal of the switch current sense resistor in the source of the N-FET. The negative terminal of the current sense resistor should be (See Datasheet)", 8 GATE (out) "N-Channel FET Gate Driver Output. Switches between INTVCC and GND. Driven to GND when IC is shut down, during thermal lockout or when INTVCC is below undervoltage threshold.", 9 INTVCC (power) "Regulated Supply for Internal Loads and Gate Driver. Regulated to 4.75V if powered from DRIVE or regulated to 3.75V if powered from VIN. The INTVCC pin must be bypassed with a minimum of 4.7uF capacitor placed close to the (See Datasheet)", 10 DRIVE (power) "DRIVE LDO Supply Pin. This pin can be connected to either VIN or a quasi-regulated voltage supply such as a DC converter output. This pin must be bypassed with a minimum of 1uF capacitor placed close to the pin. Tie this pin (See Datasheet)", 11 VIN (power) "Supply Pin for Internal Leads and the VIN LDO Regulator of INTVCC. Must be locally bypassed with a minimum of 1uF capacitor placed close to this pin.", 12 EN/UVLO (in) "Shutdown and Undervoltage Detect Pin. An accurate 1.22V (nominal) falling threshold with externally programmable hysteresis detects when power is okay to enable switching. Rising hysteresis is generated by the external (See Datasheet)", 13 EP (power) "Exposed Pad. Solder the exposed pad directly to ground plane."

## LT3759EMSE#TRPBF
designator U?
Wide Input Voltage Range Boost / SEPIC / Inverting Controller, 12-pin SOP (MSE-12-EDP), -40 to 125 degC, Pb-Free, Tape and Reel; Manufacturer: Linear Technology; PartNumber: LT3759EMSE#TRPBF; Number of Outputs: 1; PackageReference: MSE-12-EDP; PackageDescription: 12-Pin Plastic MSOP, Exposed Die Pad, Body 4.039 x 3 mm, Pitch 0.65 mm; Supplier 1: Digi-Key; Supplier Part Number 1: LT3759EMSE#TRPBF-ND; RoHS: TRUE
footprint LT-MSE-12-EDP_N (SOP, 12-Leads, Body 4.1x3.1mm, Pitch 0.65mm, Thermal Pad 2.95x1.76mm, IPC Medium Density)
footprint LT-MSE-12-EDP_L (SOP, 12-Leads, Body 4.1x3.1mm, Pitch 0.65mm, Thermal Pad 2.95x1.76mm, IPC High Density)
footprint LT-MSE-12-EDP_M (SOP, 12-Leads, Body 4.1x3.1mm, Pitch 0.65mm, Thermal Pad 2.95x1.76mm, IPC Low Density)
pins: 1 VC "Error Amplifier Compensation Pin. Used to stabilize the voltage loop with an external RC network.", 2 FBX (in) "Voltage Regulation Feedback Pin for Positive or Negative Outputs. Connect this pin to a resistor divider between the output and GND. FBX is the input of two error amplifiers-one configured to regulate a positive output; the (See Datasheet)", 3 SS (in) "Soft-Start Pin. This pin modulates compensation pin voltage (VC) clamp. The soft-start interval is set with an external capacitor. The pin has a 10uA (typical) pull-up current source to an internal 2.5V rail. The soft-start (See Datasheet)", 4 RT "Switching Frequency Adjustment Pin. Set the frequency using a resistor to GND. Do not leave the RT pin open.", 5 SYNC (in) "Frequency Synchronization Pin. Used to synchronize the internal oscillator to an outside clock. If this feature is used, an RT resistor should be chosen to program a switching frequency 20% slower than SYNC pulse frequency. (See Datasheet)", 6 ~{PGOOD} (oc) "Output Ready Status Pin. An open-collector pull down on P\G\O\O\D\ asserts when INTVCC is greater than 2.7V and the FBX voltage is within 5% (80mV if VFBX = 1.6V or 40mV if VFBX = -0.8V) of the regulation voltage.", 7 SENSE (in) "The Current Sense Input for the Control Loop. Kelvin connect this pin to the positive terminal of the switch current sense resistor in the source of the N-FET. The negative terminal of the current sense resistor should be (See Datasheet)", 8 GATE (out) "N-Channel FET Gate Driver Output. Switches between INTVCC and GND. Driven to GND when IC is shut down, during thermal lockout or when INTVCC is below undervoltage threshold.", 9 INTVCC (power) "Regulated Supply for Internal Loads and Gate Driver. Regulated to 4.75V if powered from DRIVE or regulated to 3.75V if powered from VIN. The INTVCC pin must be bypassed with a minimum of 4.7uF capacitor placed close to the (See Datasheet)", 10 DRIVE (power) "DRIVE LDO Supply Pin. This pin can be connected to either VIN or a quasi-regulated voltage supply such as a DC converter output. This pin must be bypassed with a minimum of 1uF capacitor placed close to the pin. Tie this pin (See Datasheet)", 11 VIN (power) "Supply Pin for Internal Leads and the VIN LDO Regulator of INTVCC. Must be locally bypassed with a minimum of 1uF capacitor placed close to this pin.", 12 EN/UVLO (in) "Shutdown and Undervoltage Detect Pin. An accurate 1.22V (nominal) falling threshold with externally programmable hysteresis detects when power is okay to enable switching. Rising hysteresis is generated by the external (See Datasheet)", 13 EP (power) "Exposed Pad. Solder the exposed pad directly to ground plane."

## LT3759HMSE#PBF
designator U?
Wide Input Voltage Range Boost / SEPIC / Inverting Controller, 12-pin SOP (MSE-12-EDP), -40 to 125 degC, Pb-Free; Manufacturer: Linear Technology; PartNumber: LT3759HMSE#PBF; Number of Outputs: 1; PackageReference: MSE-12-EDP; PackageDescription: 12-Pin Plastic MSOP, Exposed Die Pad, Body 4.039 x 3 mm, Pitch 0.65 mm; Supplier 1: Digi-Key; Supplier Part Number 1: LT3759HMSE#PBF-ND; RoHS: TRUE
footprint LT-MSE-12-EDP_N (SOP, 12-Leads, Body 4.1x3.1mm, Pitch 0.65mm, Thermal Pad 2.95x1.76mm, IPC Medium Density)
footprint LT-MSE-12-EDP_L (SOP, 12-Leads, Body 4.1x3.1mm, Pitch 0.65mm, Thermal Pad 2.95x1.76mm, IPC High Density)
footprint LT-MSE-12-EDP_M (SOP, 12-Leads, Body 4.1x3.1mm, Pitch 0.65mm, Thermal Pad 2.95x1.76mm, IPC Low Density)
pins: 1 VC "Error Amplifier Compensation Pin. Used to stabilize the voltage loop with an external RC network.", 2 FBX (in) "Voltage Regulation Feedback Pin for Positive or Negative Outputs. Connect this pin to a resistor divider between the output and GND. FBX is the input of two error amplifiers-one configured to regulate a positive output; the (See Datasheet)", 3 SS (in) "Soft-Start Pin. This pin modulates compensation pin voltage (VC) clamp. The soft-start interval is set with an external capacitor. The pin has a 10uA (typical) pull-up current source to an internal 2.5V rail. The soft-start (See Datasheet)", 4 RT "Switching Frequency Adjustment Pin. Set the frequency using a resistor to GND. Do not leave the RT pin open.", 5 SYNC (in) "Frequency Synchronization Pin. Used to synchronize the internal oscillator to an outside clock. If this feature is used, an RT resistor should be chosen to program a switching frequency 20% slower than SYNC pulse frequency. (See Datasheet)", 6 ~{PGOOD} (oc) "Output Ready Status Pin. An open-collector pull down on P\G\O\O\D\ asserts when INTVCC is greater than 2.7V and the FBX voltage is within 5% (80mV if VFBX = 1.6V or 40mV if VFBX = -0.8V) of the regulation voltage.", 7 SENSE (in) "The Current Sense Input for the Control Loop. Kelvin connect this pin to the positive terminal of the switch current sense resistor in the source of the N-FET. The negative terminal of the current sense resistor should be (See Datasheet)", 8 GATE (out) "N-Channel FET Gate Driver Output. Switches between INTVCC and GND. Driven to GND when IC is shut down, during thermal lockout or when INTVCC is below undervoltage threshold.", 9 INTVCC (power) "Regulated Supply for Internal Loads and Gate Driver. Regulated to 4.75V if powered from DRIVE or regulated to 3.75V if powered from VIN. The INTVCC pin must be bypassed with a minimum of 4.7uF capacitor placed close to the (See Datasheet)", 10 DRIVE (power) "DRIVE LDO Supply Pin. This pin can be connected to either VIN or a quasi-regulated voltage supply such as a DC converter output. This pin must be bypassed with a minimum of 1uF capacitor placed close to the pin. Tie this pin (See Datasheet)", 11 VIN (power) "Supply Pin for Internal Leads and the VIN LDO Regulator of INTVCC. Must be locally bypassed with a minimum of 1uF capacitor placed close to this pin.", 12 EN/UVLO (in) "Shutdown and Undervoltage Detect Pin. An accurate 1.22V (nominal) falling threshold with externally programmable hysteresis detects when power is okay to enable switching. Rising hysteresis is generated by the external (See Datasheet)", 13 EP (power) "Exposed Pad. Solder the exposed pad directly to ground plane."

## LT3759HMSE#TRPBF
designator U?
Wide Input Voltage Range Boost / SEPIC / Inverting Controller, 12-pin SOP (MSE-12-EDP), -40 to 125 degC, Pb-Free, Tape and Reel; Manufacturer: Linear Technology; PartNumber: LT3759HMSE#TRPBF; Number of Outputs: 1; PackageReference: MSE-12-EDP; PackageDescription: 12-Pin Plastic MSOP, Exposed Die Pad, Body 4.039 x 3 mm, Pitch 0.65 mm; Supplier 1: Digi-Key; Supplier Part Number 1: LT3759HMSE#TRPBF-ND; RoHS: TRUE
footprint LT-MSE-12-EDP_N (SOP, 12-Leads, Body 4.1x3.1mm, Pitch 0.65mm, Thermal Pad 2.95x1.76mm, IPC Medium Density)
footprint LT-MSE-12-EDP_L (SOP, 12-Leads, Body 4.1x3.1mm, Pitch 0.65mm, Thermal Pad 2.95x1.76mm, IPC High Density)
footprint LT-MSE-12-EDP_M (SOP, 12-Leads, Body 4.1x3.1mm, Pitch 0.65mm, Thermal Pad 2.95x1.76mm, IPC Low Density)
pins: 1 VC "Error Amplifier Compensation Pin. Used to stabilize the voltage loop with an external RC network.", 2 FBX (in) "Voltage Regulation Feedback Pin for Positive or Negative Outputs. Connect this pin to a resistor divider between the output and GND. FBX is the input of two error amplifiers-one configured to regulate a positive output; the (See Datasheet)", 3 SS (in) "Soft-Start Pin. This pin modulates compensation pin voltage (VC) clamp. The soft-start interval is set with an external capacitor. The pin has a 10uA (typical) pull-up current source to an internal 2.5V rail. The soft-start (See Datasheet)", 4 RT "Switching Frequency Adjustment Pin. Set the frequency using a resistor to GND. Do not leave the RT pin open.", 5 SYNC (in) "Frequency Synchronization Pin. Used to synchronize the internal oscillator to an outside clock. If this feature is used, an RT resistor should be chosen to program a switching frequency 20% slower than SYNC pulse frequency. (See Datasheet)", 6 ~{PGOOD} (oc) "Output Ready Status Pin. An open-collector pull down on P\G\O\O\D\ asserts when INTVCC is greater than 2.7V and the FBX voltage is within 5% (80mV if VFBX = 1.6V or 40mV if VFBX = -0.8V) of the regulation voltage.", 7 SENSE (in) "The Current Sense Input for the Control Loop. Kelvin connect this pin to the positive terminal of the switch current sense resistor in the source of the N-FET. The negative terminal of the current sense resistor should be (See Datasheet)", 8 GATE (out) "N-Channel FET Gate Driver Output. Switches between INTVCC and GND. Driven to GND when IC is shut down, during thermal lockout or when INTVCC is below undervoltage threshold.", 9 INTVCC (power) "Regulated Supply for Internal Loads and Gate Driver. Regulated to 4.75V if powered from DRIVE or regulated to 3.75V if powered from VIN. The INTVCC pin must be bypassed with a minimum of 4.7uF capacitor placed close to the (See Datasheet)", 10 DRIVE (power) "DRIVE LDO Supply Pin. This pin can be connected to either VIN or a quasi-regulated voltage supply such as a DC converter output. This pin must be bypassed with a minimum of 1uF capacitor placed close to the pin. Tie this pin (See Datasheet)", 11 VIN (power) "Supply Pin for Internal Leads and the VIN LDO Regulator of INTVCC. Must be locally bypassed with a minimum of 1uF capacitor placed close to this pin.", 12 EN/UVLO (in) "Shutdown and Undervoltage Detect Pin. An accurate 1.22V (nominal) falling threshold with externally programmable hysteresis detects when power is okay to enable switching. Rising hysteresis is generated by the external (See Datasheet)", 13 EP (power) "Exposed Pad. Solder the exposed pad directly to ground plane."